# EAGLE library part 2P2T (library Master)
MULTICOMP MCLSS22
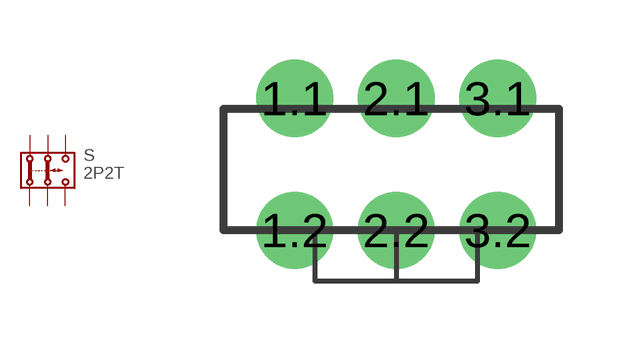
[diagram p4: symbol with the pads of 2P2T; footprint 2P2T]

Designator prefix S

## 2P2T  [2P2T]
1.1  1.1  pas
1.2  1.2  pas
2.1  2.1  pas
2.2  2.2  pas
3.1  3.1  pas
3.2  3.2  pas

## Footprint 2P2T (pad centres in mm)
drill 0.9 pad 1.93: 1.1 -2.54,2.032; 1.2 -2.54,-1.27; 2.1 0,2.032; 2.2 0,-1.27; 3.1 2.54,2.032; 3.2 2.54,-1.27